# EAGLE library part BQ24702/3 (library zz-m-pad-2.1)
TI's BQ24702/3 Multichemistry Batter Charger Controller ans System Poer Selector DESCRIPTION: The bq24702/bq24703 is a highly integrated battery charge controller and selector tailored for notebook and sub-notebook PC applications. The bq24702/bq24703 uses dynamic power management (DPM) to minimize battery charge time by maximizing use of available wall-adapter power. This is achieved by dynamically adjusting the battery charge current based on the total system (adapter) current. The bq24702/bq24703 uses a fixed frequency, pulse width modulator (PWM) to accurately control battery charge current and voltage. Charge current limits can be programmed from a keyboard controller DAC or by external resistor dividers from the precision 5-V, ±0.6%, externally bypassed voltage reference (VREF), supplied by the bq24702/bq24703. FEATURES: Dynamic Power Management, DPM Minimizes Battery Charge Time Integrated Selector Supports Battery Conditioning and Smart Battery Learn Cycle Zero Volt Operation Selector Feedback Circuit Ensures Break-Before-Make Transition ±0.4% Charge Voltage Accuracy, Suitable for Charging Li-Ion Cells ±4% Charge Current Accuracy 300-kHz Integrated PWM Controller for High-Efficiency Buck Regulation Depleted Battery Detection and Indication to Protect Battery From Over Discharge 20-uA Sleep Mode Current for Low Battery Drain 24-Pin TSSOP Package and 5 mm × 5 mm QFN package (bq24703 only) Please send any comments to: messi@users.sourceforge.net
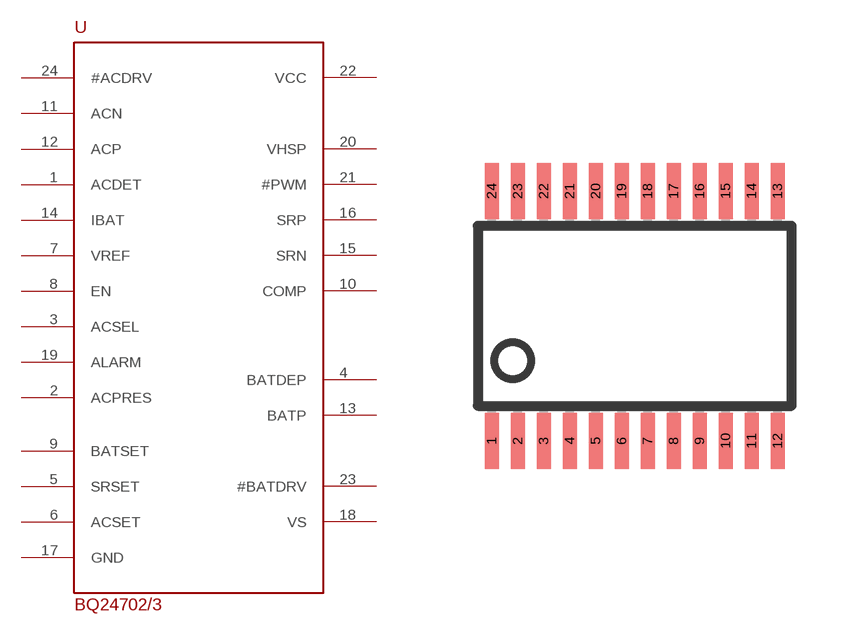
[diagram p52: symbol with the pads of TSSOP-24; footprint TSSOP-24]

Designator prefix U

## BQ24702/3  [TSSOP-24]
1  ACDET  in
2  ACPRES  out
3  ACSEL  in
4  BATDEP  in
5  SRSET  in
6  ACSET  in
7  VREF  out
8  EN  in
9  BATSET  in
10  COMP  out
11  ACN  in
12  ACP  in
13  BATP  in
14  IBAT  out
15  SRN  in
16  SRP  in
17  GND  pwr
18  VS  in
19  ALARM  out
20  VHSP  out
21  #PWM  out
22  VCC  pwr
23  #BATDRV  out
24  #ACDRV  out

## Footprint TSSOP-24 (pad centres in mm)
TSSOP-24 4.5mm body ie. bq24702/3
smd 0.35 x 1.4: 1 -3.725,-3.125; 2 -3.075,-3.125; 3 -2.425,-3.125; 4 -1.775,-3.125; 5 -1.125,-3.125; 6 -0.475,-3.125; 7 0.175,-3.125; 8 0.825,-3.125; 9 1.475,-3.125; 10 2.125,-3.125; 11 2.775,-3.125; 12 3.425,-3.125; 13 3.425,3.125; 14 2.775,3.125; 15 2.125,3.125; 16 1.475,3.125; 17 0.825,3.125; 18 0.175,3.125; 19 -0.475,3.125; 20 -1.125,3.125; 21 -1.775,3.125; 22 -2.425,3.125; 23 -3.075,3.125; 24 -3.725,3.125